# Altium schematic symbol library Schlib1.SchLib: 2 symbols
Pins are listed as number, name and electrical type; pins without a type are passive.

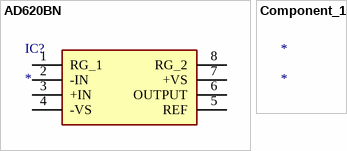
[diagram p0: symbols AD620BN to Component_1]

## AD620BN
designator IC?
Integrated Circuit; Manufacturer_Name: Rochester Electronics; Manufacturer_Part_Number: AD620BN; Datasheet Link: https://www.analog.com/media/en/technical-documentation/data-sheets/ad620.pdf; Height: 5.33mm
footprint DIP794W56P254L959H533Q8N
pins: 1 RG_1, 2 -IN, 3 +IN, 4 -VS, 5 REF, 6 OUTPUT, 7 +VS, 8 RG_2

## Component_1
designator *